# EAGLE library part SN65HVD232 (library pixhawk2-updated)
3.3-V CAN TRANSCEIVER
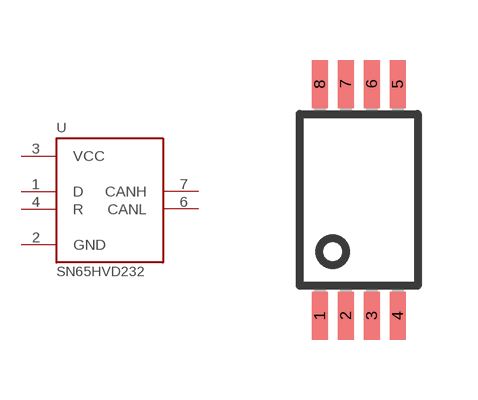
[diagram p6: symbol with the pads of R-PDSO-G08; footprint R-PDSO-G08]

Designator prefix U

## SN65HVD232  [R-PDSO-G08]
1  D  in
2  GND  sup
3  VCC  sup
4  R  out
5  NC  nc
6  CANL
7  CANH
8  NC2  nc

## Footprint R-PDSO-G08 (pad centres in mm)
PLASTIC SMALL-OUTLINE PACKAGE, SO 8 JEDEC MO-153 Source: www.ti.com/.. slvs087l.pdf
smd 0.4 x 1.2: 1 -0.975,-2.9; 2 -0.325,-2.9; 3 0.325,-2.9; 4 0.975,-2.9; 5 0.975,2.9; 6 0.325,2.9; 7 -0.325,2.9; 8 -0.975,2.9